# Altium schematic symbol library SMA_HYR-1141.Schlib: 1 symbol
Pins are listed as number, name and electrical type; pins without a type are passive.

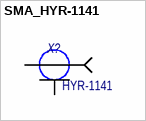
[diagram p0: symbol SMA_HYR-1141]

## SMA_HYR-1141
designator X?, comment HYR-1141
SMA(F)/L PCB; Назначение: SMA-розетка, угловой, на плату,; Наименование: HYR-1141
footprint SMA-R/A-F
pins: 1 (power), 2 (power)